# Altium footprint library STANDARD_PARTS.PcbLib: 51 footprints (part 4 of 4)
Each footprint in its own frame and in the unit in brackets; x right, y up, seen from the top. Pads: shape width x height; smd on the part's side, far side on the other; paste and mask are expansions set on the pad; w line width, h text height; cw(c..) or ccw(c..) is an arc to the next point about the centre after c.
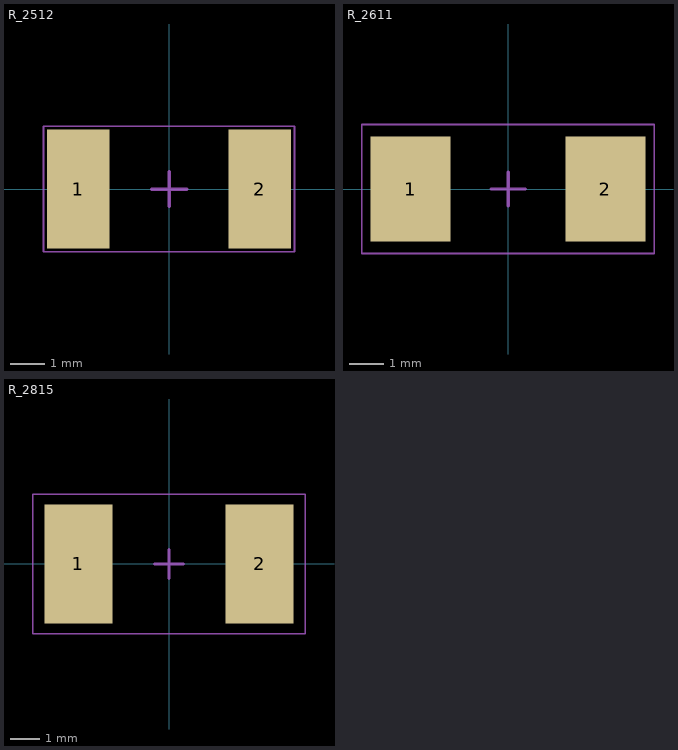
[diagram p3: the footprints below, top view; thin cyan lines are the x and y axes]

## R_2512 [mm] "VISHAY SHUNT RESISTOR"
height 3.18
pads (2):
  rect 1.8x3.4 smd: 1(-2.6,0) 2(2.6,0)
Mechanical 3:
  text ".Designator" at -3.5,2 h0.5
Mechanical 15:
  lines w0.05: -3.6,-1.8 3.6,-1.8 3.6,1.8 -3.6,1.8 -3.6,-1.8
  lines w0.1: -0.495,0 0.505,0 ; 0.005,-0.5 0.005,0.5
3D body "WSLF2512 (0.0005 ohm).stp": height 1.22, standoff 0, extent -3.175,-1.575 3.175,1.6

## R_2611 [mm] "Body 6.73 x 2.79 mm (LxW typ)"
height 3.18
pads (2):
  rect 2.35x3.1 smd: 1(-2.875,0) 2(2.875,0)
Mechanical 3:
  text ".Designator" at -4.318,2.286 h0.5
Mechanical 15:
  lines w0.05: -4.318,-1.905 4.318,-1.905 4.318,1.905 -4.318,1.905 -4.318,-1.905
  lines w0.1: -0.495,0 0.505,0 ; 0.005,-0.5 0.005,0.5
3D body: height 1, standoff 0, extent 1.905,-1.397 3.556,1.397
3D body: height 1, standoff 0, extent -1.905,-1.397 1.905,1.397
3D body: height 1, standoff 0, extent -3.556,-1.397 -1.905,1.397

## R_2815 [mm] "Body 7.24 x 3.81 mm (LxW typ)"
height 3.18
pads (2):
  rect 2.35x4.1 smd: 1(-3.125,0) 2(3.125,0)
Mechanical 3:
  text ".Designator" at -4.572,2.794 h0.5
Mechanical 15:
  lines w0.05: -4.699,-2.413 -4.699,2.413 4.699,2.413 4.699,-2.413 -4.699,-2.413
  lines w0.1: -0.495,0 0.505,0 ; 0.005,-0.5 0.005,0.5
3D body: height 1, standoff 0, extent -4,-1.778 -2.286,1.778
3D body: height 1, standoff 0, extent -2.286,-1.778 2.286,1.778
3D body: height 1, standoff 0, extent 2.286,-1.778 3.951,1.778